# Altium integrated library SparkFun-Sensors.Library.IntLib: 121 symbols (part 1 of 2)
Pins are listed as number, name and electrical type; pins without a type are passive.

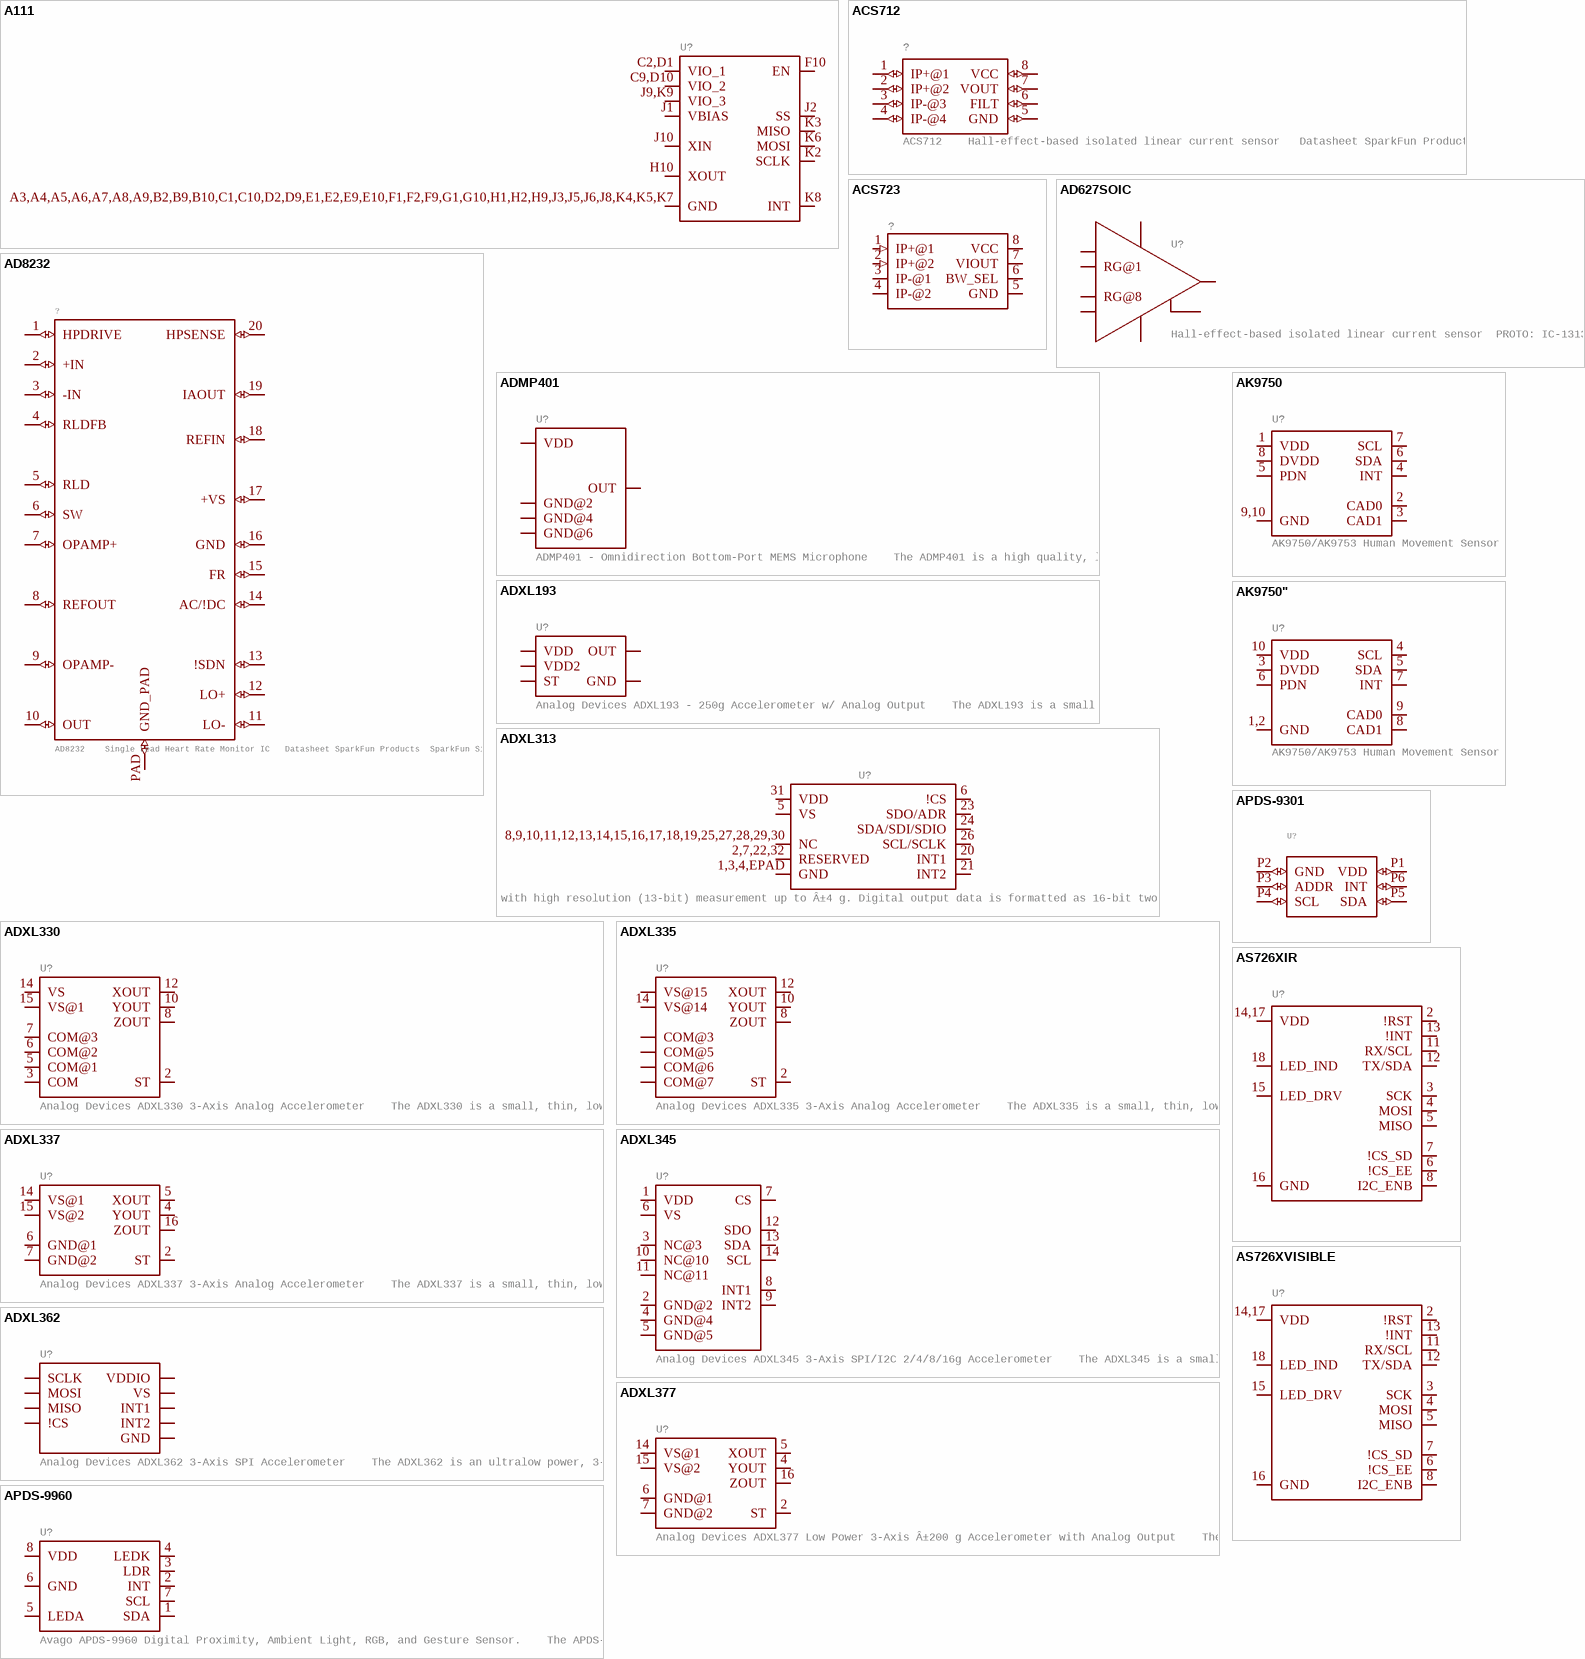
[diagram p0: symbols A111 to AS726XVISIBLE]

## A111
designator U?
GateName_1: G$1; SymbolName_1: A111; PROD_ID: IC-14498; LibraryName: SparkFun-Sensors; DeviceSetName: A111; Package: A111
footprint A111
pins: A3,A4,A5,A6,A7,A8,A9,B2,B9,B10,C1,C10,D2,D9,E1,E2,E9,E10,F1,F2,F9,G1,G10,H1,H2,H9,J3,J5,J6,J8,K4,K5,K7 GND (io), C2,D1 VIO_1 (io), C9,D10 VIO_2 (io), F10 EN (io), H10 XOUT (io), J1 VBIAS (io), J2 SS (io), J9,K9 VIO_3 (io), J10 XIN (io), K2 SCLK (io), K3 MISO (io), K6 MOSI (io), K8 INT (io)

## ACS712
designator ?, comment ACS712    Hall-effect-based isolated linear current sensor   Datasheet SparkFun Products  SparkFun Low Current Sensor Breakout - ACS712 (SEN-08883)
GateName_1: G$1; PROD_ID: IC-08964; SymbolName_1: ACS712; LibraryName: SparkFun-Sensors; DeviceSetName: ACS712; Package: SO08
footprint SO08
pins: 1 IP+@1 (io), 2 IP+@2 (io), 3 IP-@3 (io), 4 IP-@4 (io), 5 GND (io), 6 FILT (io), 7 VOUT (io), 8 VCC (io)

## ACS723
designator ?
PART_#: ACS723ACS723LLCTR-05AB-T2; GateName_1: G$1; SymbolName_1: ACS723; PROD_ID: IC-13872; LibraryName: SparkFun-Sensors; DeviceSetName: ACS723; Package: SO08
footprint SO08
pins: 1 IP+@1 (in), 2 IP+@2 (in), 3 IP-@1 (io), 4 IP-@2 (io), 5 GND (io), 6 BW_SEL (io), 7 VIOUT (io), 8 VCC (io)

## AD627SOIC
designator U?, comment Hall-effect-based isolated linear current sensor  PROTO: IC-13132
GateName_1: U1; SymbolName_1: AD627; DeviceName: SOIC; LibraryName: SparkFun-Sensors; DeviceSetName: AD627; Package: SO08-TIGHT; PROD_ID: IC-13132
footprint SO08-TIGHT
pins: 1 RG@1 (io), 2 IN- (io), 3 IN+ (io), 4 VS- (io), 5 REF (io), 6 OUTPUT (io), 7 VS+ (io), 8 RG@8 (io)

## AD8232
designator ?, comment AD8232    Single Lead Heart Rate Monitor IC   Datasheet SparkFun Products  SparkFun Single Lead Heart Rate Monitor - AD8232 (SEN-12650)
GateName_1: U$1; PROD_ID: IC-11886; SymbolName_1: AD8232; LibraryName: SparkFun-Sensors; DeviceSetName: AD8232; Package: LFCSP_20
footprint LFCSP_20
pins: 1 HPDRIVE (io), 2 +IN (io), 3 -IN (io), 4 RLDFB (io), 5 RLD (io), 6 SW (io), 7 OPAMP+ (io), 8 REFOUT (io), 9 OPAMP- (io), 10 OUT (io), 11 LO- (io), 12 LO+ (io), 13 !SDN (io), 14 AC/!DC (io), 15 FR (io), 16 GND (io), 17 +VS (io), 18 REFIN (io), 19 IAOUT (io), 20 HPSENSE (io), PAD GND_PAD (io)

## ADMP401
designator U?, comment ADMP401 - Omnidirection Bottom-Port MEMS Microphone    The ADMP401 is a high quality, low cost, low power analog output bottom-ported omnidirectional MEMS microphone. The ADMP401 consists of a MEMS microphone element, an impedance converter, and an output amplifier. The ADMP401 sensitivity specification makes it an excellent choice for both near field and far field applications.   Datasheet SparkFun Products  SparkFun MEMS Microphone Breakout - INMP401 (ADMP401) (BOB-09868)  MEMS Microphone - INMP401 (ADMP401) (COM-10028)
GateName_1: G$1; PROD_ID: IC-09773; SymbolName_1: ADMP401; LibraryName: SparkFun-Sensors; DeviceSetName: ADMP401; Package: ADMP401
footprint ADMP401
pins: 1 OUT (io), 2 GND@2 (io), 4 GND@4 (io), 5 VDD (io), 6 GND@6 (io)

## ADXL193
designator U?, comment Analog Devices ADXL193 - 250g Accelerometer w/ Analog Output    The ADXL193 is a small (5 mm x 5 mm x 2 mm ceramic LCC package), low power (1.5 mA current at 5V), single axis high-g iMEMSÂ® accelerometer designed to sense shock and vibration at g-ranges of Â±120g or Â±250g. Three models are available and include AD22282-A-R2 (Â±120g) and AD22283-B-R2 (Â±250g). These products are used in a variety of crash/impact detection applications which include automotive airbag crash detection systems as well as medical, industrial, and sports equipment.   Datasheet SparkFun Products    SparkFun Single Axis Accelerometer Breakout - ADXL193 (+/-250g) (SEN-09332)
GateName_1: G$1; PROD_ID: IC-09219; SymbolName_1: ADXL193; LibraryName: SparkFun-Sensors; DeviceSetName: ADXL193; Package: LCC-8
footprint LCC-8
pins: P$3 GND (io), P$4 ST (io), P$6 OUT (io), P$7 VDD (io), P$8 VDD2 (io)

## ADXL313
designator U?, comment Analog Devices ADXL313 3-Axis SPI/I2C 0.5/1/2/4g Ultra Low Power Accelerometer    The ADXL313 is a small, thin, low power, 3-axis accelerometer with high resolution (13-bit) measurement up to Â±4 g. Digital output data is formatted as 16-bit twos complement and is accessible through either a serial port interface (SPI) (3-wire or 4-wire) or I2C digital interface.    Datasheet SparkFun Products  SparkFun Triple Axis Accelerometer Breakout - ADXL313 (QWIIC) (SEN-17241)
GateName_1: G$1; SymbolName_1: ADXL345-1; PROD_ID: IC-15318; LibraryName: SparkFun-Sensors; DeviceSetName: ADXL313; Package: LFCSP
footprint LFCSP
pins: 1,3,4,EPAD GND (io), 2,7,22,32 RESERVED, 5 VS (io), 6 !CS (io), 8,9,10,11,12,13,14,15,16,17,18,19,25,27,28,29,30 NC, 20 INT1 (io), 21 INT2 (io), 23 SDO/ADR (io), 24 SDA/SDI/SDIO (io), 26 SCL/SCLK (io), 31 VDD (io)

## ADXL330
designator U?, comment Analog Devices ADXL330 3-Axis Analog Accelerometer    The ADXL330 is a small, thin, low power, complete 3-axis accelerometer with signal conditioned voltage outputs, all on a single monolithic IC. The product measures acceleration with a minimum full-scale range of Â±3g. It can measure the static acceleration of gravity in tilt-sensing applications, as well as dynamic acceleration resulting from motion, shock, or vibration.   Datasheet SparkFun Products  Triple Axis Accelerometer Breakout - ADXL330 (SEN-00692)
GateName_1: G$1; PROD_ID: IC-08189; SymbolName_1: ADXL330; LibraryName: SparkFun-Sensors; DeviceSetName: ADXL330; Package: LFCSP-16-4X4
footprint LFCSP-16-4X4
pins: 2 ST (io), 3 COM (io), 5 COM@1 (io), 6 COM@2 (io), 7 COM@3 (io), 8 ZOUT (io), 10 YOUT (io), 12 XOUT (io), 14 VS (io), 15 VS@1 (io)

## ADXL335
designator U?, comment Analog Devices ADXL335 3-Axis Analog Accelerometer    The ADXL335 is a small, thin, low power, complete 3-axis accelerometer with signal conditioned voltage outputs. The product measures acceleration with a minimum full-scale range of Â±3 g. It can measure the static acceleration of gravity in tiltsensing applications, as well as dynamic acceleration resulting from motion, shock, or vibration.   Datasheet SparkFun Products  SparkFun Triple Axis Accelerometer Breakout - ADXL335 (SEN-09269)  Triple Axis Accelerometer - ADXL335 (SEN-09265)
GateName_1: G$1; PROD_ID: IC-08942; SF_ID: COM-09265; SymbolName_1: ADXL335; LibraryName: SparkFun-Sensors; DeviceSetName: ADXL335; Package: LFCSP-16-4X4
footprint LFCSP-16-4X4
pins: 2 ST (io), 3 COM@3 (io), 5 COM@5 (io), 6 COM@6 (io), 7 COM@7 (io), 8 ZOUT (io), 10 YOUT (io), 12 XOUT (io), 14 VS@14 (io), 15 VS@15 (io)

## ADXL337
designator U?, comment Analog Devices ADXL337 3-Axis Analog Accelerometer    The ADXL337 is a small, thin, low power, complete 3-axis accelerometer with signal conditioned voltage outputs. The product measures acceleration with a minimum full-scale range of Â±3g. It can measure the static acceleration of gravity in tiltsensing applications, as well as dynamic acceleration resulting from motion, shock, or vibration.   Datasheet SparkFun Products  SparkFun Triple Axis Accelerometer Breakout - ADXL337 (SEN-12786)
GateName_1: G$1; PROD_ID: IC-12011; SymbolName_1: ADXL337; LibraryName: SparkFun-Sensors; DeviceSetName: ADXL337; Package: LFCSP-16-3X3
footprint LFCSP-16-3X3
pins: 2 ST (io), 4 YOUT (io), 5 XOUT (io), 6 GND@1 (io), 7 GND@2 (io), 14 VS@1 (io), 15 VS@2 (io), 16 ZOUT (io)

## ADXL345
designator U?, comment Analog Devices ADXL345 3-Axis SPI/I2C 2/4/8/16g Accelerometer    The ADXL345 is a small, thin, low power, 3-axis accelerometer with high resolution (13-bit) measurement at up to Â±16g. Digital output data is formatted as 16-bit twos complement and is accessible through either a SPI (3- or 4-wire) or I2C digital interface.   Datasheet SparkFun Products  SparkFun Triple Axis Accelerometer Breakout - ADXL345 (SEN-09836)  Triple Axis Accelerometer - ADXL345 (SEN-09045)  SparkFun 6 Degrees of Freedom IMU Digital Combo Board - ITG3200/ADXL345 (SEN-10121)
GateName_1: G$1; PROD_ID: IC-09097; SymbolName_1: ADXL345; LibraryName: SparkFun-Sensors; DeviceSetName: ADXL345; Package: LGA-14; SF_ID: SEN-09045
footprint LGA-14
pins: 1 VDD (io), 2 GND@2 (io), 3 NC@3 (io), 4 GND@4 (io), 5 GND@5 (io), 6 VS (io), 7 CS (io), 8 INT1 (io), 9 INT2 (io), 10 NC@10 (io), 11 NC@11 (io), 12 SDO (io), 13 SDA (io), 14 SCL (io)

## ADXL362
designator U?, comment Analog Devices ADXL362 3-Axis SPI Accelerometer    The ADXL362 is an ultralow power, 3-axis MEMS accelerometer that consumes less than 2 Î¼A at a 100 Hz output data rate and 270 nA when in motion triggered wake-up mode. Unlike accelerometers that use power duty cycling to achieve low power consumption, the ADXL362 does not alias input signals by undersampling; it samples the full bandwidth of the sensor at all data rates.   Datasheet SparkFun Products  SparkFun Triple Axis Accelerometer Breakout - ADXL362 (SEN-11446)
GateName_1: G$1; PROD_ID: IC-11297; SymbolName_1: ADXL362; LibraryName: SparkFun-Sensors; DeviceSetName: ADXL362; Package: LGA-16-3X2.5
footprint LGA-16-3X2.5
pins: P$1 VDDIO (io), P$4 SCLK (io), P$6 MOSI (io), P$7 MISO (io), P$8 !CS (io), P$9 INT2 (io), P$11 INT1 (io), P$12,13,16 GND (io), P$14 VS (io)

## ADXL377
designator U?, comment Analog Devices ADXL377 Low Power 3-Axis Â±200 g Accelerometer with Analog Output    The ADXL377 is a small, thin, low power, complete 3-axis accelerometer with signal conditioned voltage outputs. The ADXL377 measures acceleration resulting from motion, shock, or vibration with a typical full-scale range of Â±200g.   Datasheet SparkFun Products  SparkFun Triple Axis Accelerometer Breakout - ADXL377 (SEN-12803)
GateName_1: G$1; PROD_ID: IC-12027; SymbolName_1: ADXL377; LibraryName: SparkFun-Sensors; DeviceSetName: ADXL377; Package: LFCSP-16-3X3
footprint LFCSP-16-3X3
pins: 2 ST (io), 4 YOUT (io), 5 XOUT (io), 6 GND@1 (io), 7 GND@2 (io), 14 VS@1 (io), 15 VS@2 (io), 16 ZOUT (io)

## AK9750
designator U?, comment AK9750/AK9753 Human Movement Sensor
GateName_1: U1; SymbolName_1: AK9750; PROD_ID: SEN-13737; LibraryName: SparkFun-Sensors; DeviceSetName: AK9750; Package: SON10
footprint SON10
pins: 1 VDD (io), 2 CAD0 (io), 3 CAD1 (io), 4 INT (io), 5 PDN (io), 6 SDA (io), 7 SCL (io), 8 DVDD (io), 9,10 GND (io)

## AK9750"
designator U?, comment AK9750/AK9753 Human Movement Sensor
GateName_1: U1; SymbolName_1: AK9750; DeviceName: "; PROD_ID: SEN_13772; LibraryName: SparkFun-Sensors; DeviceSetName: AK9750; Package: SON10
footprint SON10
pins: 1,2 GND (io), 3 DVDD (io), 4 SCL (io), 5 SDA (io), 6 PDN (io), 7 INT (io), 8 CAD1 (io), 9 CAD0 (io), 10 VDD (io)

## APDS-9301
designator U?
GateName_1: G$1; PROD_ID: IC-13662; SymbolName_1: APDS-9301; LibraryName: SparkFun-Sensors; DeviceSetName: APDS-9301; Package: CHIPLED-6
footprint CHIPLED-6
pins: P1 VDD (io), P2 GND (io), P3 ADDR (io), P4 SCL (io), P5 SDA (io), P6 INT (io)

## APDS-9960
designator U?, comment Avago APDS-9960 Digital Proximity, Ambient Light, RGB, and Gesture Sensor.    The APDS-9960 offers ambient light and color measuring, proximity detection, and touchless gesture sensing. It features UV and IR blocking filters, four separate diodes sensitive to different directions, and an I2C compatible interface.   Datasheet SparkFun Products  SparkFun RGB and Gesture Sensor - APDS-9960 (SEN-12787)
GateName_1: G$1; PROD_ID: SEN-12005; SymbolName_1: APDS-9960; LibraryName: SparkFun-Sensors; DeviceSetName: APDS-9960; Package: APDS-9960
footprint APDS-9960
pins: 1 SDA (io), 2 INT (io), 3 LDR (io), 4 LEDK (io), 5 LEDA (io), 6 GND (io), 7 SCL (io), 8 VDD (io)

## AS726XIR
designator U?
GateName_1: U1; SymbolName_1: AS726X; DeviceName: IR; PROD_ID: IC-13731; LibraryName: SparkFun-Sensors; DeviceSetName: AS726X; Package: LGA20
footprint LGA20
pins: 2 !RST (io), 3 SCK (io), 4 MOSI (io), 5 MISO (io), 6 !CS_EE (io), 7 !CS_SD (io), 8 I2C_ENB (io), 11 RX/SCL (io), 12 TX/SDA (io), 13 !INT (io), 14,17 VDD (io), 15 LED_DRV (io), 16 GND (io), 18 LED_IND (io)

## AS726XVISIBLE
designator U?
GateName_1: U1; SymbolName_1: AS726X; DeviceName: VISIBLE; PROD_ID: IC_13724; LibraryName: SparkFun-Sensors; DeviceSetName: AS726X; Package: LGA20
footprint LGA20
pins: 2 !RST (io), 3 SCK (io), 4 MOSI (io), 5 MISO (io), 6 !CS_EE (io), 7 !CS_SD (io), 8 I2C_ENB (io), 11 RX/SCL (io), 12 TX/SDA (io), 13 !INT (io), 14,17 VDD (io), 15 LED_DRV (io), 16 GND (io), 18 LED_IND (io)

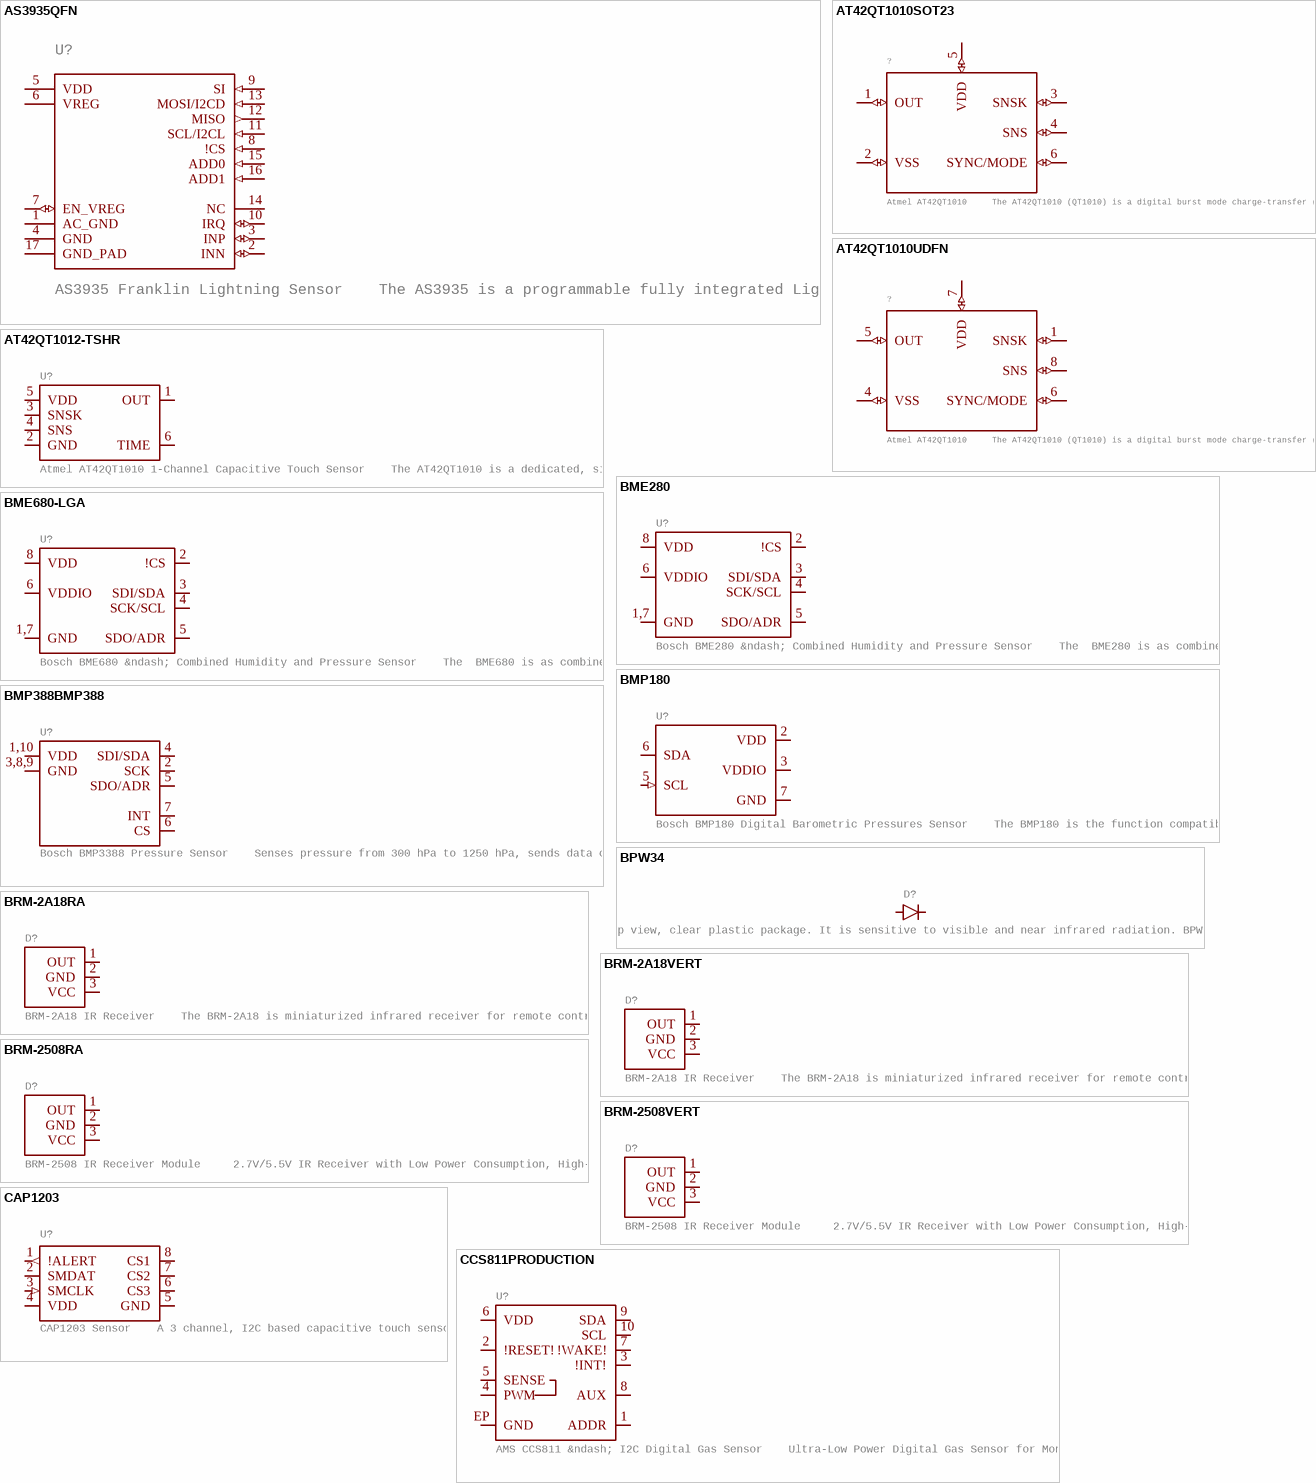
[diagram p1: symbols AS3935QFN to CCS811PRODUCTION]

## AS3935QFN
designator U?, comment AS3935 Franklin Lightning Sensor    The AS3935 is a programmable fully integrated Lightning Sensor IC that detects the presence and approach of potentially hazardous lightning activity in the vicinity and provides an estimation on the distance to the head of the storm. The embedded lightning algorithm checks the incoming signal pattern to reject the potential man-made disturbers.The AS3935 can also provide information on the noise level and inform the external unit (e.g. microcontroller) in case of high noise conditions, with the noise floor generator and noise floor evaluation blocks.
GateName_1: G$1; DeviceName: QFN; PROD_ID: IC-11333; SymbolName_1: AS3935; LibraryName: SparkFun-Sensors; DeviceSetName: AS3935; Package: 16LD_MLPQ
footprint 16LD_MLPQ
pins: 1 AC_GND (power), 2 INN (io), 3 INP (io), 4 GND (power), 5 VDD (power), 6 VREG (power), 7 EN_VREG (io), 8 !CS (in), 9 SI (in), 10 IRQ (io), 11 SCL/I2CL (in), 12 MISO (out), 13 MOSI/I2CD (in), 14 NC, 15 ADD0 (in), 16 ADD1 (in), 17 GND_PAD (power)

## AT42QT1010SOT23
designator ?, comment Atmel AT42QT1010     The AT42QT1010 (QT1010) is a digital burst mode charge-transfer (QTâ„¢) sensor that is capable of detecting nearproximityor touch, making it ideal for implementing touch controls.The QT1010 is designed specifically for human interfaces, like control panels, appliances, toys, lighting controls, or anywhere a mechanical switch or button may be found. It includes all hardware and signal processing functions necessary to provide stable sensing under a wide variety of changing conditions. Only a single low-cost capacitor is required for operation.   Datasheet Sparkfun Products  Sparkfun Capacitive Touch Breakout (SEN-12041)
GateName_1: G$1; DeviceName: SOT23; SymbolName_1: AT42QT1010; LibraryName: SparkFun-Sensors; DeviceSetName: AT42QT1010; Package: SOT23-6
footprint SOT23-6
pins: 1 OUT (io), 2 VSS (io), 3 SNSK (io), 4 SNS (io), 5 VDD (io), 6 SYNC/MODE (io)

## AT42QT1010UDFN
designator ?, comment Atmel AT42QT1010     The AT42QT1010 (QT1010) is a digital burst mode charge-transfer (QTâ„¢) sensor that is capable of detecting nearproximityor touch, making it ideal for implementing touch controls.The QT1010 is designed specifically for human interfaces, like control panels, appliances, toys, lighting controls, or anywhere a mechanical switch or button may be found. It includes all hardware and signal processing functions necessary to provide stable sensing under a wide variety of changing conditions. Only a single low-cost capacitor is required for operation.   Datasheet Sparkfun Products  Sparkfun Capacitive Touch Breakout (SEN-12041)
GateName_1: G$1; DeviceName: UDFN; PROD_ID: IC-13773; SymbolName_1: AT42QT1010; LibraryName: SparkFun-Sensors; DeviceSetName: AT42QT1010; Package: UDFN/USON_8_PAD
footprint UDFN/USON_8_PAD
pins: 1 SNSK (io), 4 VSS (io), 5 OUT (io), 6 SYNC/MODE (io), 7 VDD (io), 8 SNS (io)

## AT42QT1012-TSHR
designator U?, comment Atmel AT42QT1010 1-Channel Capacitive Touch Sensor    The AT42QT1010 is a dedicated, single-button capacitive sense chip. The chip handles monitoring a conductive area for touch. As long as a touch (e.g. from a finger) is detected, the AT42QT1010 keeps the output line high. Otherwise, the line is kept low.   Datasheet SparkFun Products  SparkFun Capacitive Touch Breakout - AT42QT1010 (SEN-12041)
GateName_1: G$1; SymbolName_1: AT42QT1012; DeviceName: -TSHR; PROD_ID: IC-11778; LibraryName: SparkFun-Sensors; DeviceSetName: AT42QT1012; Package: SOT23-6
footprint SOT23-6
pins: 1 OUT (io), 2 GND (io), 3 SNSK (io), 4 SNS (io), 5 VDD (io), 6 TIME (io)

## BME280
designator U?, comment Bosch BME280 &ndash; Combined Humidity and Pressure Sensor    The  BME280 is as combined digital humidity, pressure and temperature sensor based on proven sensing principles. The sensor module is housed in an extremely compact metal-lid LGA package  with a footprint of only 2.5Ã—2.5mmÂ² with a height of 0.93mm. Its small dimensions and its low power consumption allow the implementation in battery driven devices such as handsets,  GPS modules or watches.   Datasheet SparkFun Products  SparkFun Atmospheric Sensor Breakout - BME280 (SEN-13676)
GateName_1: U1; PROD_ID: IC-13090; SymbolName_1: BME280; LibraryName: SparkFun-Sensors; DeviceSetName: BME280; Package: LGA-8-2.5X2.5
footprint LGA-8-2.5X2.5
pins: 1,7 GND (io), 2 !CS (io), 3 SDI/SDA (io), 4 SCK/SCL (io), 5 SDO/ADR (io), 6 VDDIO (io), 8 VDD (io)

## BME680-LGA
designator U?, comment Bosch BME680 &ndash; Combined Humidity and Pressure Sensor    The  BME680 is as combined digital humidity, pressure and temperature sensor based on proven sensing principles. The sensor module is housed in an extremely compact metal-lid LGA package  with a footprint of only 3.0Ã—3.0mm with a height of 0.93mm. Its small dimensions and its low power consumption allow the implementation in battery driven devices such as handsets,  GPS modules or watches.
GateName_1: G$1; DeviceName: -LGA; PROD_ID: IC-14656; SymbolName_1: BME680; LibraryName: SparkFun-Sensors; DeviceSetName: BME680; Package: LGA3.0X3.0
footprint LGA3.0X3.0
pins: 1,7 GND (io), 2 !CS (io), 3 SDI/SDA (io), 4 SCK/SCL (io), 5 SDO/ADR (io), 6 VDDIO (io), 8 VDD (io)

## BMP180
designator U?, comment Bosch BMP180 Digital Barometric Pressures Sensor    The BMP180 is the function compatible successor of the BMP085, a new generation of high precision digital pressure sensors for consumer applications.   The ultra-low power, low voltage electronics of the BMP180 is optimized for use in mobile phones, PDAs, GPS navigation devices and outdoor equipment. With a low altitude noise of merely 0.25m at fast conversion time, the BMP180 offers superior performance. The I2C interface allows for easy system integration with a microcontroller. The BMP180 is based on piezo-resistive technology for EMC robustness, high accuracy and linearity as well as long term stability.   Web page: http://www.bosch-sensortec.com/en/homepage/products_3/environmental_sensors_1/bmp180_1/bmp180 Datasheet:  http://ae-bst.resource.bosch.com/media/products/dokumente/bmp180/BST-BMP180-DS000-09.pdf SparkFun Products  Barometric Pressure Sensor - BMP180 (COM-11823)  SparkFun Barometric Pressure Sensor Breakout - BMP180 (SEN-11824)
GateName_1: G$1; PROD_ID: IC-11600; SF_ID: 11823; SymbolName_1: BMP180; LibraryName: SparkFun-Sensors; DeviceSetName: BMP180; Package: BMP180
footprint BMP180
pins: 2 VDD (power), 3 VDDIO (power), 5 SCL (in), 6 SDA (io), 7 GND (power)

## BMP388BMP388
designator U?, comment Bosch BMP3388 Pressure Sensor    Senses pressure from 300 hPa to 1250 hPa, sends data out over I2C or Serial
GateName_1: G$1; SymbolName_1: BMP388; PROD_ID: IC-14045; DeviceName: BMP388; LibraryName: SparkFun-Sensors; DeviceSetName: BMP388; Package: LGA-10(2X2)
footprint LGA-10(2X2)
pins: 1,10 VDD (io), 2 SCK (io), 3,8,9 GND (io), 4 SDI/SDA (io), 5 SDO/ADR (io), 6 CS (io), 7 INT (io)

## BPW34
designator D?, comment Vishay BPW34 Silicon PIN Photodiode (Miniature Solar Cell)    BPW34 is a PIN photodiode with high speed and high radiant sensitivity in miniature, flat, top view, clear plastic package. It is sensitive to visible and near infrared radiation. BPW34S is packed in tubes, specifications like BPW34.   Datasheet: https://www.sparkfun.com/datasheets/Prototyping/Solar/bpw34.pdf SparkFun Products  Miniature Solar Cell - BPW34 (PRT-09541)
GateName_1: G$1; SymbolName_1: DIODE; LibraryName: SparkFun-Sensors; DeviceSetName: BPW34; Package: BPW34; SF_ID: PRT-09541
footprint BPW34
pins: P$1 A, P$2 C

## BRM-2A18RA
designator D?, comment BRM-2A18 IR Receiver    The BRM-2A18 is miniaturized infrared receiver for remote control and other applications requiring improved ambient light rejection.    Vertical package is a primary component on the ZX Distance and Gesture Sensor. RA package is not currently in-use.   Example Datasheet SparkFun Products  ZX Distance and Gesture Sensor (COM-12780)
GateName_1: G$1; SymbolName_1: BRM-2A18; DeviceName: RA; LibraryName: SparkFun-Sensors; DeviceSetName: BRM-2A18; Package: BRM-2508
footprint BRM-2508
pins: 1 OUT (io), 2 GND (io), 3 VCC (io)

## BRM-2A18VERT
designator D?, comment BRM-2A18 IR Receiver    The BRM-2A18 is miniaturized infrared receiver for remote control and other applications requiring improved ambient light rejection.    Vertical package is a primary component on the ZX Distance and Gesture Sensor. RA package is not currently in-use.   Example Datasheet SparkFun Products  ZX Distance and Gesture Sensor (COM-12780)
GateName_1: G$1; DeviceName: VERT; PROD_ID: COMP-12505; SymbolName_1: BRM-2A18; LibraryName: SparkFun-Sensors; DeviceSetName: BRM-2A18; Package: BRM-2508_VERT
footprint BRM-2508_VERT
pins: 1 OUT (io), 2 GND (io), 3 VCC (io)

## BRM-2508RA
designator D?, comment BRM-2508 IR Receiver Module     2.7V/5.5V IR Receiver with Low Power Consumption, High-immunity Against Ambient Light.   Example Datasheet
GateName_1: G$1; DeviceName: RA; PROD_ID: COMP-12059; SymbolName_1: BRM-2508; LibraryName: SparkFun-Sensors; DeviceSetName: BRM-2508; Package: BRM-2508
footprint BRM-2508
pins: 1 OUT (io), 2 GND (io), 3 VCC (io)

## BRM-2508VERT
designator D?, comment BRM-2508 IR Receiver Module     2.7V/5.5V IR Receiver with Low Power Consumption, High-immunity Against Ambient Light.   Example Datasheet
GateName_1: G$1; DeviceName: VERT; PROD_ID: COMP-12059; SymbolName_1: BRM-2508; LibraryName: SparkFun-Sensors; DeviceSetName: BRM-2508; Package: BRM-2508_VERT
footprint BRM-2508_VERT
pins: 1 OUT (io), 2 GND (io), 3 VCC (io)

## CAP1203
designator U?, comment CAP1203 Sensor    A 3 channel, I2C based capacitive touch sensor
GateName_1: G$1; PROD_ID: IC-14356; SymbolName_1: CAP1203; LibraryName: SparkFun-Sensors; DeviceSetName: CAP1203; Package: SO08-TIGHT
footprint SO08-TIGHT
pins: 1 !ALERT (out), 2 SMDAT (io), 3 SMCLK (in), 4 VDD (power), 5 GND (power), 6 CS3 (io), 7 CS2 (io), 8 CS1 (io)

## CCS811PRODUCTION
designator U?, comment AMS CCS811 &ndash; I2C Digital Gas Sensor    Ultra-Low Power Digital Gas Sensor for Monitoring Indoor Air Quality   AMS Product Page   SparkFun Products:
GateName_1: U1; DeviceName: PRODUCTION; PROD_ID: IC-13607; SymbolName_1: CCS811; LibraryName: SparkFun-Sensors; DeviceSetName: CCS811; Package: LGA10
footprint LGA10
pins: 1 ADDR (io), 2 !RESET! (io), 3 !INT! (io), 4 PWM (io), 5 SENSE (io), 6 VDD (io), 7 !WAKE! (io), 8 AUX (io), 9 SDA (io), 10 SCL (io), EP GND (io)

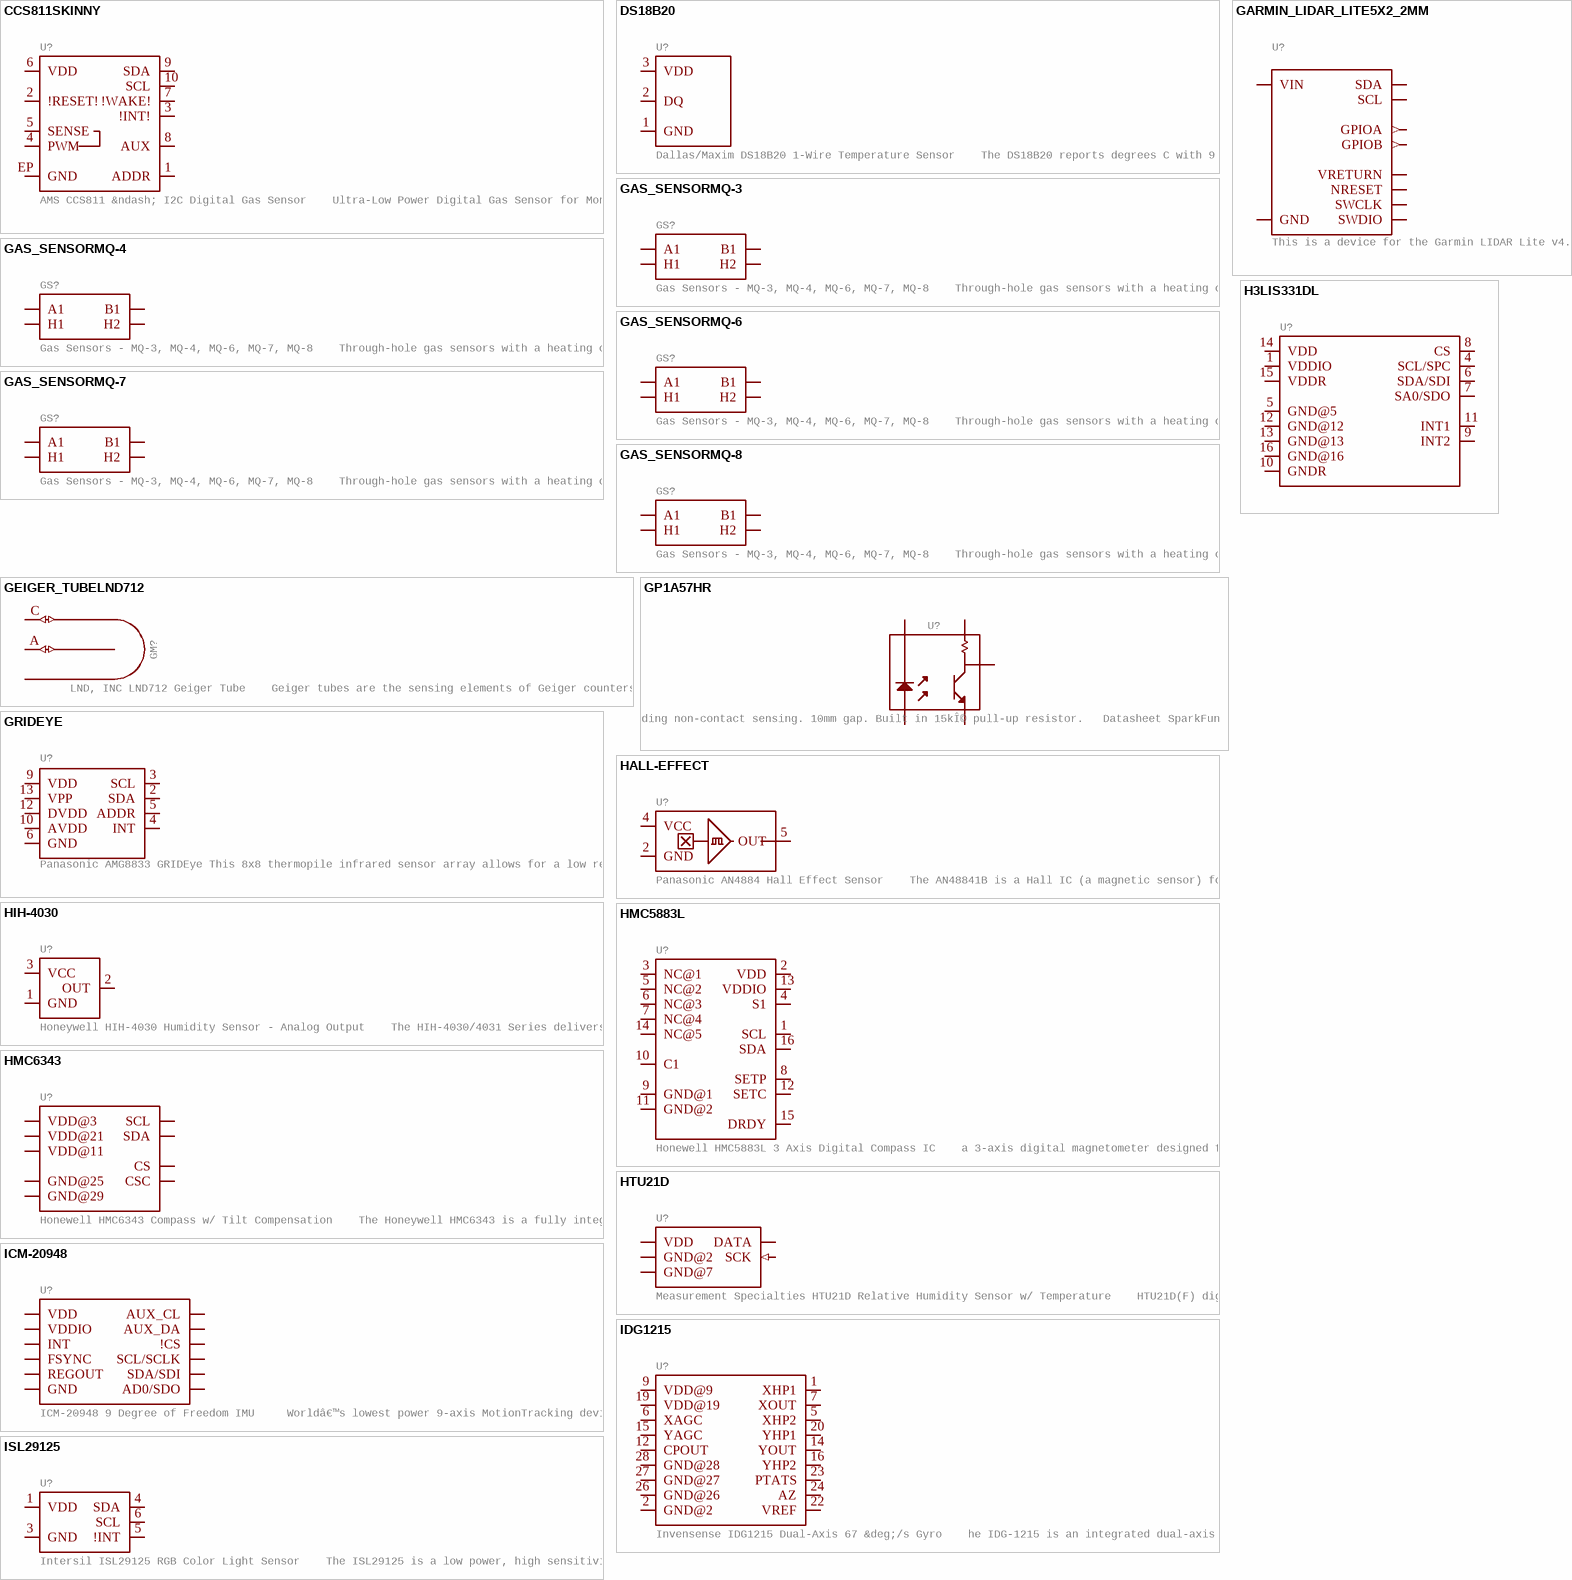
[diagram p2: symbols CCS811SKINNY to ISL29125]

## CCS811SKINNY
designator U?, comment AMS CCS811 &ndash; I2C Digital Gas Sensor    Ultra-Low Power Digital Gas Sensor for Monitoring Indoor Air Quality   AMS Product Page   SparkFun Products:
GateName_1: U1; DeviceName: SKINNY; SymbolName_1: CCS811; LibraryName: SparkFun-Sensors; DeviceSetName: CCS811; Package: LGA10-MILLABLE
footprint LGA10-MILLABLE
pins: 1 ADDR (io), 2 !RESET! (io), 3 !INT! (io), 4 PWM (io), 5 SENSE (io), 6 VDD (io), 7 !WAKE! (io), 8 AUX (io), 9 SDA (io), 10 SCL (io), EP GND (io)

## DS18B20
designator U?, comment Dallas/Maxim DS18B20 1-Wire Temperature Sensor    The DS18B20 reports degrees C with 9 to 12-bit precision, -55C to 125C (+/-0.5C). Each sensor has a unique 64-Bit Serial number etched into it - allows for a huge number of sensors to be used on one data bus.   Datasheet SparkFun Products  One Wire Digital Temperature Sensor - DS18B20 (SEN-00245)
GateName_1: G$1; SymbolName_1: DS18B20; LibraryName: SparkFun-Sensors; DeviceSetName: DS18B20; Package: TO-92-AMMO; STORE_ID: SEN-00245
footprint TO-92-AMMO
pins: 1 GND (power), 2 DQ (io), 3 VDD (power)

## GARMIN_LIDAR_LITE5X2_2MM
designator U?, comment This is a device for the Garmin LIDAR Lite v4.
GateName_1: U1; SymbolName_1: GARMIN_LIDAR_LITE; DeviceName: 5X2_2MM; PROD_ID: SEN-14784, CONN-15822; LibraryName: SparkFun-Sensors; DeviceSetName: GARMIN_LIDAR_LITE; Package: 5X2_2MM
footprint 5X2_2MM
pins: 1 VIN (power), 2 GND (power), 3 SDA (io), 4 SCL (io), 5 GPIOA (out), 6 GPIOB (out), 7 VRETURN (io), 8 NRESET (io), 9 SWCLK (io), 10 SWDIO (io)

## GAS_SENSORMQ-3
designator GS?, comment Gas Sensors - MQ-3, MQ-4, MQ-6, MQ-7, MQ-8    Through-hole gas sensors with a heating coil and an analog output.   Example Datasheet SparkFun Products  Gas Sensor Breakout Board (BOB-8891) - Breakout board compatible with all gas sensors.  Alcohol Gas Sensor - MQ-3 (SEN-08880)  Methane CNG Gas Sensor - MQ-4 (SEN-09404)  LPG Gas Sensor - MQ-6 (SEN-09405)  Carbon Monoxide Sensor - MQ-7 (SEN-09403)  Hydrogen Gas Sensor - MQ-8 (SEN-10916)
GateName_1: G$1; DeviceSetName: GAS_SENSOR; PROD_ID: COMP-12216; SymbolName_1: MQ-3; DeviceName: MQ-3; LibraryName: SparkFun-Sensors; Package: GAS_SENSOR; SF_ID: SEN-08880
footprint GAS_SENSOR
pins: A1 (io), B1 (io), HA H1 (io), HB H2 (io)

## GAS_SENSORMQ-4
designator GS?, comment Gas Sensors - MQ-3, MQ-4, MQ-6, MQ-7, MQ-8    Through-hole gas sensors with a heating coil and an analog output.   Example Datasheet SparkFun Products  Gas Sensor Breakout Board (BOB-8891) - Breakout board compatible with all gas sensors.  Alcohol Gas Sensor - MQ-3 (SEN-08880)  Methane CNG Gas Sensor - MQ-4 (SEN-09404)  LPG Gas Sensor - MQ-6 (SEN-09405)  Carbon Monoxide Sensor - MQ-7 (SEN-09403)  Hydrogen Gas Sensor - MQ-8 (SEN-10916)
GateName_1: G$1; DeviceSetName: GAS_SENSOR; PROD_ID: COMP-11559; SymbolName_1: MQ-3; DeviceName: MQ-4; LibraryName: SparkFun-Sensors; Package: GAS_SENSOR; SF_ID: SEN-09404
footprint GAS_SENSOR
pins: A1 (io), B1 (io), HA H1 (io), HB H2 (io)

## GAS_SENSORMQ-6
designator GS?, comment Gas Sensors - MQ-3, MQ-4, MQ-6, MQ-7, MQ-8    Through-hole gas sensors with a heating coil and an analog output.   Example Datasheet SparkFun Products  Gas Sensor Breakout Board (BOB-8891) - Breakout board compatible with all gas sensors.  Alcohol Gas Sensor - MQ-3 (SEN-08880)  Methane CNG Gas Sensor - MQ-4 (SEN-09404)  LPG Gas Sensor - MQ-6 (SEN-09405)  Carbon Monoxide Sensor - MQ-7 (SEN-09403)  Hydrogen Gas Sensor - MQ-8 (SEN-10916)
GateName_1: G$1; DeviceSetName: GAS_SENSOR; SymbolName_1: MQ-3; DeviceName: MQ-6; LibraryName: SparkFun-Sensors; Package: GAS_SENSOR; SF_ID: SEN-09405
footprint GAS_SENSOR
pins: A1 (io), B1 (io), HA H1 (io), HB H2 (io)

## GAS_SENSORMQ-7
designator GS?, comment Gas Sensors - MQ-3, MQ-4, MQ-6, MQ-7, MQ-8    Through-hole gas sensors with a heating coil and an analog output.   Example Datasheet SparkFun Products  Gas Sensor Breakout Board (BOB-8891) - Breakout board compatible with all gas sensors.  Alcohol Gas Sensor - MQ-3 (SEN-08880)  Methane CNG Gas Sensor - MQ-4 (SEN-09404)  LPG Gas Sensor - MQ-6 (SEN-09405)  Carbon Monoxide Sensor - MQ-7 (SEN-09403)  Hydrogen Gas Sensor - MQ-8 (SEN-10916)
GateName_1: G$1; DeviceSetName: GAS_SENSOR; PROD_ID: COMP-12214; SymbolName_1: MQ-3; DeviceName: MQ-7; LibraryName: SparkFun-Sensors; Package: GAS_SENSOR; SF_ID: SEN-09403
footprint GAS_SENSOR
pins: A1 (io), B1 (io), HA H1 (io), HB H2 (io)

## GAS_SENSORMQ-8
designator GS?, comment Gas Sensors - MQ-3, MQ-4, MQ-6, MQ-7, MQ-8    Through-hole gas sensors with a heating coil and an analog output.   Example Datasheet SparkFun Products  Gas Sensor Breakout Board (BOB-8891) - Breakout board compatible with all gas sensors.  Alcohol Gas Sensor - MQ-3 (SEN-08880)  Methane CNG Gas Sensor - MQ-4 (SEN-09404)  LPG Gas Sensor - MQ-6 (SEN-09405)  Carbon Monoxide Sensor - MQ-7 (SEN-09403)  Hydrogen Gas Sensor - MQ-8 (SEN-10916)
GateName_1: G$1; DeviceSetName: GAS_SENSOR; PROD_ID: COMP-13351; SymbolName_1: MQ-3; DeviceName: MQ-8; LibraryName: SparkFun-Sensors; Package: GAS_SENSOR; SF_ID: SEN-10916
footprint GAS_SENSOR
pins: A1 (io), B1 (io), HA H1 (io), HB H2 (io)

## GEIGER_TUBELND712
designator GM?, comment LND, INC LND712 Geiger Tube    Geiger tubes are the sensing elements of Geiger counters, which are used to measure ionizing radiation. This tube is made of a thin-walled stainless steel and is filled with a mixture of Neon and Halogen gases at low-pressure.   Datasheet SparkFun Products  Geiger Tube (COM-08875)  SparkFun Geiger Counter (SEN-11345)
GateName_1: G$1; SymbolName_1: GEIGER_TUBE; PROD_ID: COMP-09328; DeviceName: LND712; LibraryName: SparkFun-Sensors; DeviceSetName: GEIGER_TUBE; Package: GEIGER_TUBE; SF_ID: SEN-11345
footprint GEIGER_TUBE
pins: A (io), C (io)

## GP1A57HR
designator U?, comment Sharp GP1A57HR Transmissive Photointerrupter    Standard, OPIC output, transmissive photointerrupter with opposing emitter and detector in a case, providing non-contact sensing. 10mm gap. Built in 15kÎ© pull-up resistor.   Datasheet SparkFun Products  Photo Interrupter - GP1A57HRJ00F (SEN-09299)  SparkFun Photo Interrupter Breakout Board - GP1A57HRJ00F (BOB-09322) - Breakout board for above.
GateName_1: G$1; SymbolName_1: GP1A57HR; LibraryName: SparkFun-Sensors; DeviceSetName: GP1A57HR; Package: GP1A57HR; SF_ID: SEN-09299
footprint GP1A57HR
pins: 1 (io), 2 (io), 3 (io), 4 (io), 5 (io)

## GRIDEYE
designator U?, comment Panasonic AMG8833 GRIDEye This 8x8 thermopile infrared sensor array allows for a low resolution thermal camera.
GateName_1: U1; SymbolName_1: AMG88; PROD_ID: IC-13912; LibraryName: SparkFun-Sensors; DeviceSetName: GRIDEYE; Package: GRIDEYE-AMG88
footprint GRIDEYE-AMG88
pins: 2 SDA (io), 3 SCL (io), 4 INT (io), 5 ADDR (io), 6 GND (io), 9 VDD (io), 10 AVDD (io), 12 DVDD (io), 13 VPP (io)

## H3LIS331DL
designator U?
GateName_1: G$1; SymbolName_1: LIS331; DeviceSetName: H3LIS331DL; PROD_ID: IC-13786; LibraryName: SparkFun-Sensors; Package: LGA-16-3X3
footprint LGA-16-3X3
pins: 1 VDDIO (io), 4 SCL/SPC (io), 5 GND@5 (io), 6 SDA/SDI (io), 7 SA0/SDO (io), 8 CS (io), 9 INT2 (io), 10 GNDR (io), 11 INT1 (io), 12 GND@12 (io), 13 GND@13 (io), 14 VDD (io), 15 VDDR (io), 16 GND@16 (io)

## HALL-EFFECT
designator U?, comment Panasonic AN4884 Hall Effect Sensor    The AN48841B is a Hall IC (a magnetic sensor) for 3.0 V supply voltage built using Bi-CMOS technology. In this Hall IC are a Hall element, an offset cancel circuit, an amplifier circuit, a sample-and-hold circuit, a Schmidt circuit, and an output stage FET are integrated on a single chip housed in a small SC70 package.   Datasheet SparkFun Products  SparkFun Blackberry Trackballer Breakout (COM-13169) - Hall sensor is triggered by tiny magnets on trackball.
GateName_1: G$1; SymbolName_1: HALL-EFFECT; PROD_ID: IC-09214; LibraryName: SparkFun-Sensors; DeviceSetName: HALL-EFFECT; Package: SC70
footprint SC70
pins: 2 GND (io), 4 VCC (io), 5 OUT (io)

## HIH-4030
designator U?, comment Honeywell HIH-4030 Humidity Sensor - Analog Output    The HIH-4030/4031 Series delivers instrumentation-quality RH (Relative Humidity) sensing performance in a competitively priced, solderable SMD.   Datasheet SparkFun Products  SparkFun Humidity Sensor Breakout - HIH-4030 (SEN-09569)
GateName_1: G$1; PROD_ID: IC-09448; SymbolName_1: HIH-4030; LibraryName: SparkFun-Sensors; DeviceSetName: HIH-4030; Package: HIH-4030
footprint HIH-4030
pins: 1 GND (io), 2 OUT (io), 3 VCC (io)

## HMC5883L
designator U?, comment Honewell HMC5883L 3 Axis Digital Compass IC    a 3-axis digital magnetometer designed for low-field magnetic sensing. The sensor has a full-scale range of Â±8 Guass and a resolution of up to 5 milli-Gauss.   Supplied voltage should be between 2.16 and 3.6VDC.   Communication with the HMC5883L is simple and all done through an I2C interface. All registers and operating modes are well described in the datasheet below.   Datasheet SparkFun Products  Magnetometer Digital Triple Axis - HMC5883L (COM-10494)  SparkFun Triple Axis Magnetometer Breakout - HMC5883L (SEN-10530)  9 Degrees of Freedom - Razor IMU (SEN-10736)  SparkFun 9 Degrees of Freedom - Sensor Stick (SEN-10724)
GateName_1: G$1; PROD_ID: IC-10284; SymbolName_1: HMC5883L; LibraryName: SparkFun-Sensors; DeviceSetName: HMC5883L; Package: LPCC-16; SF_ID: COM-10494
footprint LPCC-16
pins: 1 SCL (io), 2 VDD (io), 3 NC@1 (io), 4 S1 (io), 5 NC@2 (io), 6 NC@3 (io), 7 NC@4 (io), 8 SETP (io), 9 GND@1 (io), 10 C1 (io), 11 GND@2 (io), 12 SETC (io), 13 VDDIO (io), 14 NC@5 (io), 15 DRDY (io), 16 SDA (io)

## HMC6343
designator U?, comment Honewell HMC6343 Compass w/ Tilt Compensation    The Honeywell HMC6343 is a fully integrated compass module that includes firmware  for  heading  computation and  calibration  for  magnetic  distortions.  The module combines three-axis magneto-resistive sensor, three-axis MEMS accelerometer,   analog   and   digital   support   circuits,   microprocessor and algorithms required for  heading  computation   Datasheet SparkFun Products  SparkFun HMC6343 Breakout  (SEN-12916)
GateName_1: G$1; PROD_ID: IC-12117; SymbolName_1: HMC6343; LibraryName: SparkFun-Sensors; DeviceSetName: HMC6343; Package: LCC-36
footprint LCC-36
pins: 3 VDD@3 (io), 11 VDD@11 (io), 21 VDD@21 (io), 22 CS (io), 25 GND@25 (io), 29 GND@29 (io), 32 SCL (io), 35 CSC (io), 36 SDA (io)

## HTU21D
designator U?, comment Measurement Specialties HTU21D Relative Humidity Sensor w/ Temperature    HTU21D(F) digital humidity sensors are dedicated humidity and temperature plug and play transducers for OEM applications  where  reliable  and  accurate  measurements  are  needed.  Direct  interface  with  a  micro-controller  is made  possible  with  the  module for humidity  and  temperature  digital  outputs. These  low  power sensors are designed for high volume and cost sensitive applications with tight space constraints.    Datasheet SparkFun Products  SparkFun Humidity and Temperature Sensor Breakout - HTU21D (SEN-12064)  SparkFun Weather Shield (SEN-12081)  SparkFun Photon Weather Shield (SEN-13630)
GateName_1: U$1; PROD_ID: IC-11793; SymbolName_1: HTU21D; LibraryName: SparkFun-Sensors; DeviceSetName: HTU21D; Package: DFN-6-3X3-HTU21D
footprint DFN-6-3X3-HTU21D
pins: 7 GND@7 (power), DATA (io), GND GND@2 (power), SCK (in), VDD (power)

## ICM-20948
designator U?, comment ICM-20948 9 Degree of Freedom IMU     Worldâ€™s lowest power 9-axis MotionTracking device that is ideally suited for smartphones, tablets, wearable sensors, and IoT applications. Includes onboard Digital Motion Processor to offload computations from the host processor  Datasheet   SparkFun Products: SparkFun IMU Breakout - ICM-20948
GateName_1: G$1; PROD_ID: IC-14247; SymbolName_1: ICM-20948; LibraryName: SparkFun-Sensors; DeviceSetName: ICM-20948; Package: QFN24-3X3-ICM-20948
footprint QFN24-3X3-ICM-20948
pins: 7 AUX_CL (io), 8 VDDIO (io), 9 AD0/SDO (io), 10 REGOUT (io), 11 FSYNC (io), 12 INT (io), 13 VDD (io), 18,20 GND (io), 21 AUX_DA (io), 22 !CS (io), 23 SCL/SCLK (io), 24 SDA/SDI (io)

## IDG1215
designator U?, comment Invensense IDG1215 Dual-Axis 67 &deg;/s Gyro    he IDG-1215 is an integrated dual-axis angular rate sensor (gyroscope). It uses InvenSenseâ€™s proprietary and patented MEMS technology with vertically driven, vibrating masses to make a functionally complete, low-cost, dual-axis angular rate sensor. All required electronics are integrated onto a single chip with the sensor.   Datasheet SparkFun Products  Dual Axis Gyro - IDG1215 (COM-09071)  Gyro Breakout Board - IDG1215 Dual 67Â°/s (SEN-09093)
GateName_1: G$1; PROD_ID: IC-09061; SymbolName_1: IDG1215; LibraryName: SparkFun-Sensors; DeviceSetName: IDG1215; Package: QFN-28; SF_ID: COM-09071
footprint QFN-28
pins: 1 XHP1 (io), 2 GND@2 (io), 5 XHP2 (io), 6 XAGC (io), 7 XOUT (io), 9 VDD@9 (io), 12 CPOUT (io), 14 YOUT (io), 15 YAGC (io), 16 YHP2 (io), 19 VDD@19 (io), 20 YHP1 (io), 22 VREF (io), 23 PTATS (io), 24 AZ (io), 26 GND@26 (io), 27 GND@27 (io), 28 GND@28 (io)

## ISL29125
designator U?, comment Intersil ISL29125 RGB Color Light Sensor    The ISL29125 is a low power, high sensitivity, RED, GREEN and BLUE color light sensor (RGB) with an I2C (SMBus compatible) interface. Its state-of-the-art photodiode array provides an accurate RGB spectral response and excellent light source to light source variation (LS2LS).   Datasheet SparkFun Products  SparkFun RGB Light Sensor - ISL29125 (SEN-12829)
GateName_1: G$1; PROD_ID: IC-12055; SymbolName_1: ISL29125; LibraryName: SparkFun-Sensors; DeviceSetName: ISL29125; Package: ODFN-6
footprint ODFN-6
pins: 1 VDD (io), 3 GND (io), 4 SDA (io), 5 !INT (io), 6 SCL (io)

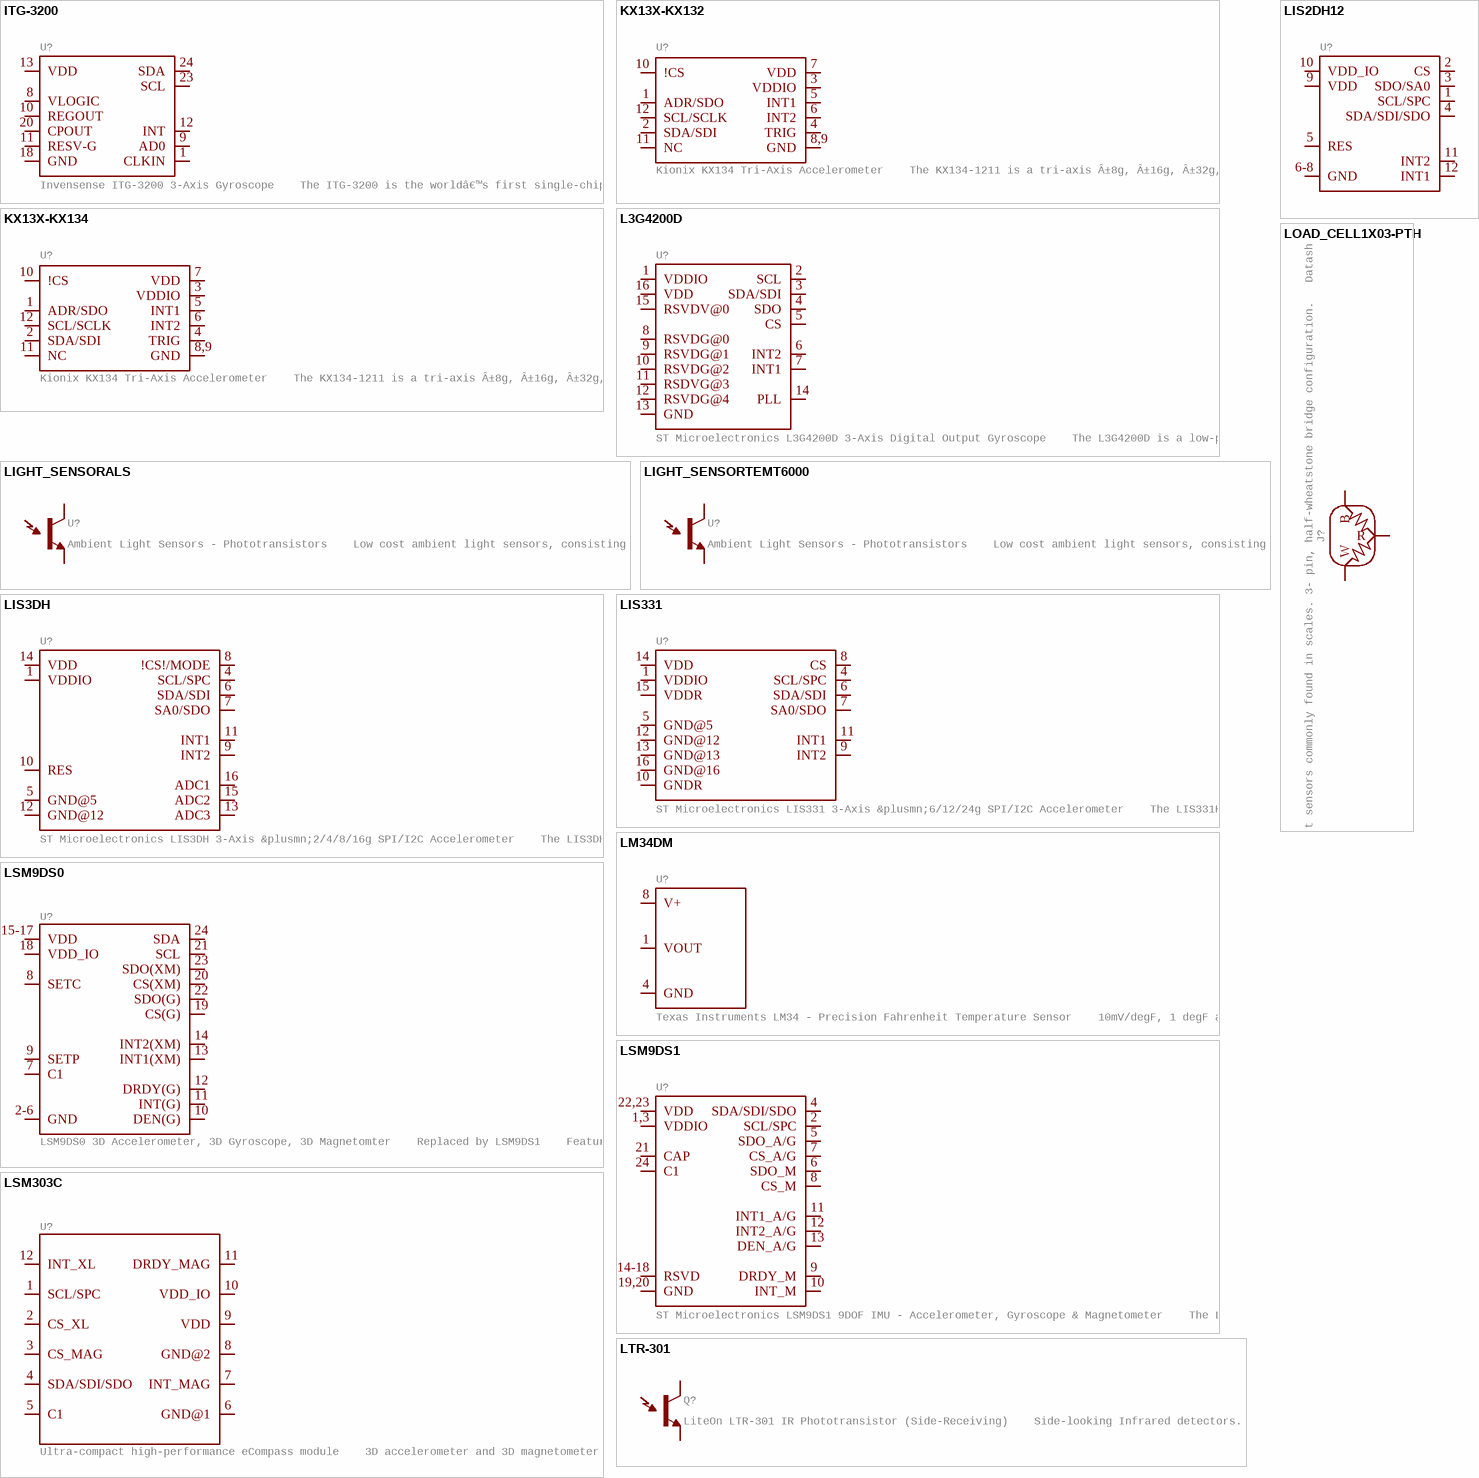
[diagram p3: symbols ITG-3200 to LTR-301]

## ITG-3200
designator U?, comment Invensense ITG-3200 3-Axis Gyroscope    The ITG-3200 is the worldâ€™s first single-chip, digital-output, 3-axis MEMS motion processing gyro optimized for gaming, 3D mice, and motion-based remote control applications for Internet connected Digital TVs and Set Top Boxes. The ITG-3200 features three 16-bit analog-to-digital converters (ADCs) for digitizing the gyro outputs, a user-selectable internal low-pass filter bandwidth, and a Fast-Mode IÂ²C (400kHz) interface. Additional features include an embedded temperature sensor and a 2% accurate internal oscillator. This breakthrough in MEMS motion processing gyro technology provides a dramatic 60% package size reduction, delivers a 60% power reduction, and has inherent cost advantages compared to competing multi-chip gyro solutions.   Datasheet SparkFun Products  Triple-Axis Digital-Output Gyroscope - ITG-3200 (SEN-09793)  SparkFun Triple-Axis Digital-Output Gyro Breakout - ITG-3200 (SEN-11977)  SparkFun 9 Degrees of Freedom - Sensor Stick (SEN-10724)  SparkFun 6 Degrees of Freedom IMU Digital Combo Board - ITG3200/ADXL345 (SEN-10121)  9 Degrees of Freedom - Razor IMU (SEN-10736)
GateName_1: G$1; PROD_ID: IC-09685; SymbolName_1: ITG-3200; LibraryName: SparkFun-Sensors; DeviceSetName: ITG-3200; Package: QFN-24; SF_ID: SEN-09793
footprint QFN-24
pins: 1 CLKIN (io), 8 VLOGIC (io), 9 AD0 (io), 10 REGOUT (io), 11 RESV-G (io), 12 INT (io), 13 VDD (io), 18 GND (io), 20 CPOUT (io), 23 SCL (io), 24 SDA (io)

## KX13X-KX132
designator U?, comment Kionix KX134 Tri-Axis Accelerometer    The KX134-1211 is a tri-axis Â±8g, Â±16g, Â±32g, or Â±64g silicon micromachined accelerometer featuring a user-configurable 3-stage Advanced Data Path (ADP) consisting of a low-pass filter, low-pass/high-pass filter, and RMS calculation engine. The KX134-1211 accelerometer also features an advanced Wake-Up and Back-to-Sleep detection with a high-resolution threshold capability configurable down to 15.6 mg, 512-byte buffer that continues to record data even when being read, as well as embedded engines for orientation, Directional-TapTM/DoubleTapTM, and Free fall detection.
GateName_1: G$1; SymbolName_1: KX13X; DeviceName: -KX132; PROD_ID: IC-15721; LibraryName: SparkFun-Sensors; DeviceSetName: KX13X; Package: KX13X
footprint KX13X
pins: 1 ADR/SDO (io), 2 SDA/SDI (io), 3 VDDIO (io), 4 TRIG (io), 5 INT1 (io), 6 INT2 (io), 7 VDD (io), 8,9 GND (io), 10 !CS (io), 11 NC, 12 SCL/SCLK (io)

## KX13X-KX134
designator U?, comment Kionix KX134 Tri-Axis Accelerometer    The KX134-1211 is a tri-axis Â±8g, Â±16g, Â±32g, or Â±64g silicon micromachined accelerometer featuring a user-configurable 3-stage Advanced Data Path (ADP) consisting of a low-pass filter, low-pass/high-pass filter, and RMS calculation engine. The KX134-1211 accelerometer also features an advanced Wake-Up and Back-to-Sleep detection with a high-resolution threshold capability configurable down to 15.6 mg, 512-byte buffer that continues to record data even when being read, as well as embedded engines for orientation, Directional-TapTM/DoubleTapTM, and Free fall detection.
GateName_1: G$1; SymbolName_1: KX13X; DeviceName: -KX134; PROD_ID: IC-15486; LibraryName: SparkFun-Sensors; DeviceSetName: KX13X; Package: KX13X
footprint KX13X
pins: 1 ADR/SDO (io), 2 SDA/SDI (io), 3 VDDIO (io), 4 TRIG (io), 5 INT1 (io), 6 INT2 (io), 7 VDD (io), 8,9 GND (io), 10 !CS (io), 11 NC, 12 SCL/SCLK (io)

## L3G4200D
designator U?, comment ST Microelectronics L3G4200D 3-Axis Digital Output Gyroscope    The L3G4200D is a low-power three-axis angular rate sensor, has a full scale of Â±250/Â±500/Â±2000 dps and is capable of measuring rates with a user-selectable bandwidth.  It includes a sensing element and an IC interface capable of providing the measured angular rate to the external world through a digital interface (I2C/SPI).   Datasheet SparkFun Products  SparkFun Tri-Axis Gyro Breakout - L3G4200D (SEN-10612)
GateName_1: G$1; PROD_ID: IC-10395; SymbolName_1: L3G4200D; LibraryName: SparkFun-Sensors; DeviceSetName: L3G4200D; Package: LGA-16-4X4
footprint LGA-16-4X4
pins: 1 VDDIO (io), 2 SCL (io), 3 SDA/SDI (io), 4 SDO (io), 5 CS (io), 6 INT2 (io), 7 INT1 (io), 8 RSVDG@0 (io), 9 RSVDG@1 (io), 10 RSVDG@2 (io), 11 RSDVG@3 (io), 12 RSVDG@4 (io), 13 GND (io), 14 PLL (io), 15 RSVDV@0 (io), 16 VDD (io)

## LIGHT_SENSORALS
designator U?, comment Ambient Light Sensors - Phototransistors    Low cost ambient light sensors, consisting of a phototransistor in miniature SMD packages. Output voltage varies with light intensity. SparkFun Products  ALS-PT19 Light Sensor (SEN-12566)  Ambient Light Sensor - TEMT6000 (SEN-08348)  SparkFun Ambient Light Sensor Breakout - TEMT60000 (SEN-08688)
GateName_1: G$1; DeviceName: ALS; DeviceSetName: LIGHT_SENSOR; PROD_ID: IC-11836; SymbolName_1: LIGHTSENSOR; LibraryName: SparkFun-Sensors; Package: ALS-PT19; SF_ID: SEN-12566
footprint ALS-PT19
pins: C C1, E E1

## LIGHT_SENSORTEMT6000
designator U?, comment Ambient Light Sensors - Phototransistors    Low cost ambient light sensors, consisting of a phototransistor in miniature SMD packages. Output voltage varies with light intensity. SparkFun Products  ALS-PT19 Light Sensor (SEN-12566)  Ambient Light Sensor - TEMT6000 (SEN-08348)  SparkFun Ambient Light Sensor Breakout - TEMT60000 (SEN-08688)
GateName_1: G$1; DeviceSetName: LIGHT_SENSOR; PROD_ID: COMP-08569; SF_ID: COM-08348; SymbolName_1: LIGHTSENSOR; DeviceName: TEMT6000; LibraryName: SparkFun-Sensors; Package: TEMT6000
footprint TEMT6000
pins: COLLECTOR C1, EMITTER E1

## LIS2DH12
designator U?
GateName_1: G$1; SymbolName_1: LIS2DH12; PROD_ID: IC-14229; LibraryName: SparkFun-Sensors; DeviceSetName: LIS2DH12; Package: LGA-12-LISDH12; DIGIKEY: 497-14851-2-ND
footprint LGA-12-LISDH12
pins: 1 SCL/SPC (io), 2 CS (io), 3 SDO/SA0 (io), 4 SDA/SDI/SDO (io), 5 RES (io), 6-8 GND (io), 9 VDD (io), 10 VDD_IO (io), 11 INT2 (io), 12 INT1 (io)

## LIS3DH
designator U?, comment ST Microelectronics LIS3DH 3-Axis &plusmn;2/4/8/16g SPI/I2C Accelerometer    The LIS3DH is a three axis MEMS linear accelerometer in the "nano" family. It has a digital I2C/SPI serial interface which makes it ideal for using in embedded applications. The device also features ultra low-power operational modes that allow advanced power saving and smart sleep to wake-up functions, built in detections with interrupts, and auxiliary ADC inputs   Datasheet-XXXX SparkFun Products  SparkFun Triple Axis Accelerometer Breakout - LIS3DH (SEN-XXXXX)  Triple Axis Accelerometer - LIS3DH (SEN-XXXXX)
GateName_1: G$1; PROD_ID: IC-13419; SymbolName_1: LIS3DH; LibraryName: SparkFun-Sensors; DeviceSetName: LIS3DH; Package: LGA-16-3X3; SF_ID: N/A
footprint LGA-16-3X3
pins: 1 VDDIO (io), 4 SCL/SPC (io), 5 GND@5 (io), 6 SDA/SDI (io), 7 SA0/SDO (io), 8 !CS!/MODE (io), 9 INT2 (io), 10 RES (io), 11 INT1 (io), 12 GND@12 (io), 13 ADC3 (io), 14 VDD (io), 15 ADC2 (io), 16 ADC1 (io)

## LIS331
designator U?, comment ST Microelectronics LIS331 3-Axis &plusmn;6/12/24g SPI/I2C Accelerometer    The LIS331HH is an ultra low-power full-scale three axis MEMS linear accelerometer. It has a digital I2C/SPI serial interface which makes it ideal for using in embedded applications. The device also features ultra low-power operational modes that allow advanced power saving and smart sleep to wake-up functions.   Datasheet SparkFun Products  SparkFun Triple Axis Accelerometer Breakout - LIS331 (SEN-10345)  Triple Axis Accelerometer - LIS331HH (SEN-09755)
GateName_1: G$1; PROD_ID: IC-12675; SF_ID: COM-09755; SymbolName_1: LIS331; LibraryName: SparkFun-Sensors; DeviceSetName: LIS331; Package: LGA-16-3X3
footprint LGA-16-3X3
pins: 1 VDDIO (io), 4 SCL/SPC (io), 5 GND@5 (io), 6 SDA/SDI (io), 7 SA0/SDO (io), 8 CS (io), 9 INT2 (io), 10 GNDR (io), 11 INT1 (io), 12 GND@12 (io), 13 GND@13 (io), 14 VDD (io), 15 VDDR (io), 16 GND@16 (io)

## LM34DM
designator U?, comment Texas Instruments LM34 - Precision Fahrenheit Temperature Sensor    10mV/degF, 1 degF accurate analog temp sensor   Datasheet
GateName_1: G$1; DeviceName: DM; PROD_ID: IC-08232; SymbolName_1: LM34; LibraryName: SparkFun-Sensors; DeviceSetName: LM34; Package: SOIC-8
footprint SOIC-8
pins: 1 VOUT (io), 4 GND (io), 8 V+ (io)

## LOAD_CELL1X03-PTH
designator J?, comment Load Cell - Half-Wheatstone Bridge    Load cell weight sensors commonly found in scales. 3- pin, half-wheatstone bridge configuration.   Datasheet SparkFun Products  Load Sensor - 50kg (SEN-10245)
GateName_1: G$1; SymbolName_1: LOAD_CELL; DeviceName: 1X03-PTH; LibraryName: SparkFun-Sensors; DeviceSetName: LOAD_CELL; Package: 1X03; SF_ID: SEN-10245
footprint 1X03
pins: 1 B, 2 W, 3 R

## LSM9DS0
designator U?, comment LSM9DS0 3D Accelerometer, 3D Gyroscope, 3D Magnetomter    Replaced by LSM9DS1    Features:  3 acceleration channels, 3 angular rate channels, 3 magnetic field channels  Â±2/Â±4/Â±6/Â±8/Â±16 g linear acceleration full scale  Â±2/Â±4/Â±8/Â±12 gauss magnetic full scale   Â±245/Â±500/Â±2000 dps angular rate full scale   16-bit data output   SPI / I2C serial interfaces   Analog supply voltage 2.4 V to 3.6 V   Power-down mode / low-power mode   Programmable interrupt generators   Embedded self-test   Embedded temperature sensor   Embedded FIFO   Position and motion detection functions   Click/double-click recognition       Datasheet SparkFun Products  SparkFun Block for IntelÂ® Edison - 9 Degrees of Freedom (DEV-13033)
GateName_1: G$1; PROD_ID: IC-11867; SymbolName_1: LSM9DS0; LibraryName: SparkFun-Sensors; DeviceSetName: LSM9DS0; Package: LGA-24
footprint LGA-24
pins: 2-6 GND (io), 7 C1 (io), 8 SETC (io), 9 SETP (io), 10 DEN(G) (io), 11 INT(G) (io), 12 DRDY(G) (io), 13 INT1(XM) (io), 14 INT2(XM) (io), 15-17 VDD (io), 18 VDD_IO (io), 19 CS(G) (io), 20 CS(XM) (io), 21 SCL (io), 22 SDO(G) (io), 23 SDO(XM) (io), 24 SDA (io)

## LSM9DS1
designator U?, comment ST Microelectronics LSM9DS1 9DOF IMU - Accelerometer, Gyroscope & Magnetometer    The LSM9DS1 is a versatile, motion-sensing system-in-a-chip. It houses a 3-axis accelerometer, 3-axis gyroscope, and 3-axis magnetometer â€“ nine degrees of freedom (9DOF) in a single IC! The LSM9DS1 is equipped with a digital interface, but even that is flexible: it supports both I2C and SPI, so youâ€™ll be hard-pressed to find a microcontroller it doesnâ€™t work with.   Datasheet SparkFun Products  SparkFun 9 Degrees of Freedom IMU Breakout - LSM9DS1 (SEN-13284)  SparkFun Photon IMU Shield (DEV-13629)
GateName_1: G$1; PROD_ID: IC-12536; SymbolName_1: LSM9DS1; LibraryName: SparkFun-Sensors; DeviceSetName: LSM9DS1; Package: LGA-24-3.5X3
footprint LGA-24-3.5X3
pins: 1,3 VDDIO (io), 2 SCL/SPC (io), 4 SDA/SDI/SDO (io), 5 SDO_A/G (io), 6 SDO_M (io), 7 CS_A/G (io), 8 CS_M (io), 9 DRDY_M (io), 10 INT_M (io), 11 INT1_A/G (io), 12 INT2_A/G (io), 13 DEN_A/G (io), 14-18 RSVD (io), 19,20 GND (io), 21 CAP (io), 22,23 VDD (io), 24 C1 (io)

## LSM303C
designator U?, comment Ultra-compact high-performance eCompass module    3D accelerometer and 3D magnetometer      Datasheet SparkFun Products  SparkFun 6 Degrees of Freedom Breakout - LSM303C (BOB-13303)
GateName_1: G$1; PROD_ID: IC-12557; SymbolName_1: LSM303C; LibraryName: SparkFun-Sensors; DeviceSetName: LSM303C; Package: LGA-12
footprint LGA-12
pins: 1 SCL/SPC (io), 2 CS_XL (io), 3 CS_MAG (io), 4 SDA/SDI/SDO (io), 5 C1 (io), 6 GND@1 (io), 7 INT_MAG (io), 8 GND@2 (io), 9 VDD (io), 10 VDD_IO (io), 11 DRDY_MAG (io), 12 INT_XL (io)

## LTR-301
designator Q?, comment LiteOn LTR-301 IR Phototransistor (Side-Receiving)    Side-looking Infrared detectors. These simple devices operate at 940nm and work well for generic IR systems including remote control and touch-less object sensing. Using a simple ADC on any microcontroller will allow variable readings to be collected from the detector.   Datasheet SparkFun Products  Infrared Emitters and Detectors (SEN-00241)
GateName_1: G$1; SymbolName_1: LIGHTSENSOR; PROD_ID: DIO-10904; LibraryName: SparkFun-Sensors; DeviceSetName: LTR-301; Package: LTR-301; SF_ID: SEN-00241
footprint LTR-301
pins: C C1, E E1

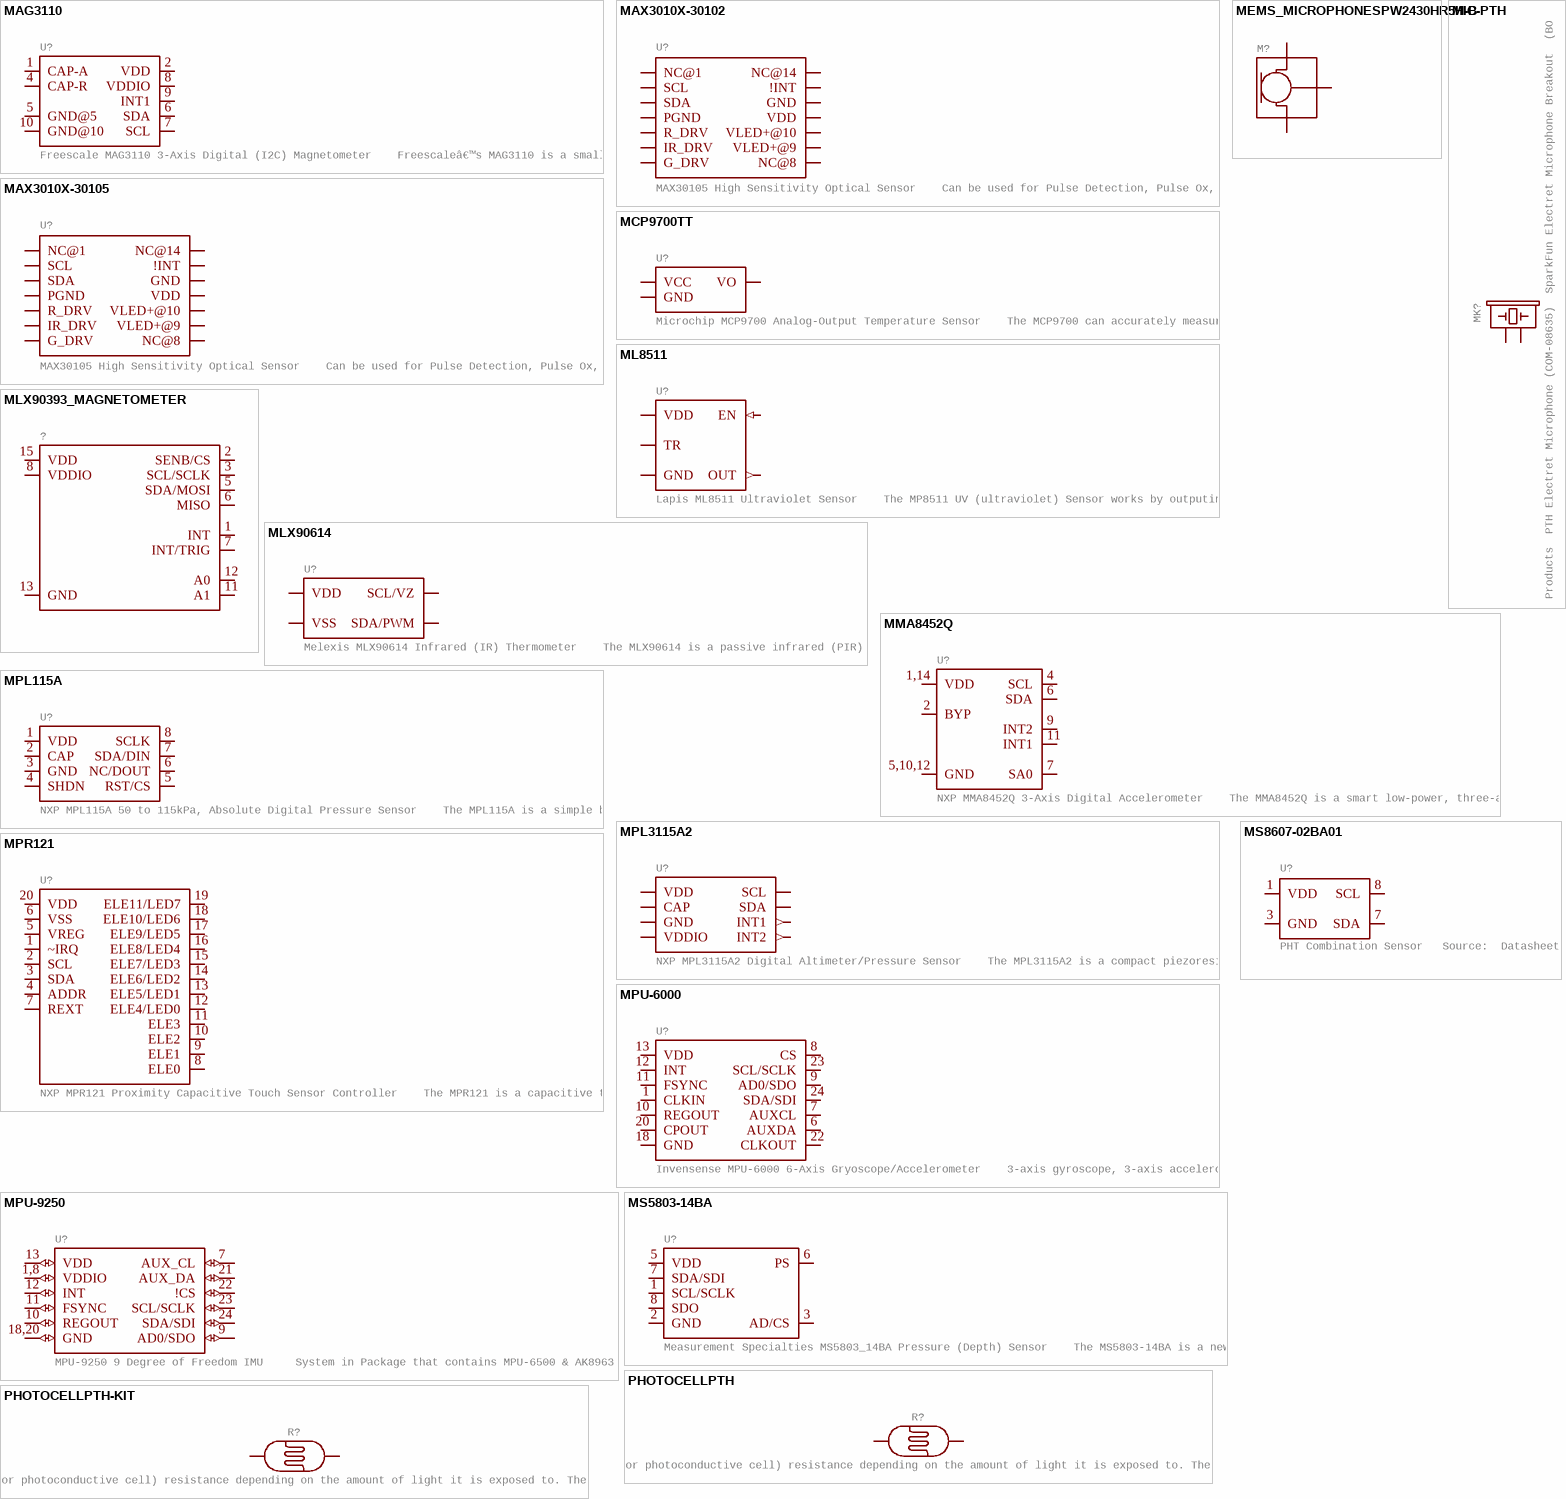
[diagram p4: symbols MAG3110 to PHOTOCELLPTH-KIT]

## MAG3110
designator U?, comment Freescale MAG3110 3-Axis Digital (I2C) Magnetometer    Freescaleâ€™s MAG3110 is a small, low-power, digital 3-axis magnetometer. The device can be used in conjunction with a 3-axis accelerometer to produce orientation independent accurate compass heading information. It features a standard I2C serial interface output and smart embedded functions.   Datasheet SparkFun Products  SparkFun Triple Axis Magnetometer Breakout - MAG3110 (SEN-12670)
GateName_1: G$1; PROD_ID: IC-10404; SymbolName_1: MAG3110; LibraryName: SparkFun-Sensors; DeviceSetName: MAG3110; Package: DFN-10
footprint DFN-10
pins: 1 CAP-A (io), 2 VDD (io), 4 CAP-R (io), 5 GND@5 (io), 6 SDA (io), 7 SCL (io), 8 VDDIO (io), 9 INT1 (io), 10 GND@10 (io)